# EAGLE library part M95320-WMN6P (library ST_Microelctronics_By_element14_Batch_1)
32 Kbit serial SPI bus EEPROMs
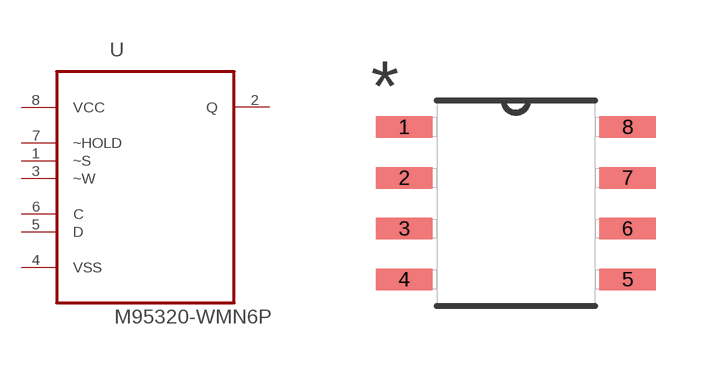
[diagram p269: symbol with the pads of SOIC127P600X175-8N; footprint SOIC127P600X175-8N]

Designator prefix U

## M95320-WMN6P (MPN: M95320-WMN6P; OC_FARNELL: 1159692; OC_NEWARK: 92K7330; PACKAGE: SOIC-8; SUPPLIER: STMICROELECTRONICS)  [SOIC127P600X175-8N]
1  ~S  in
2  Q  out
3  ~W  pas
4  VSS  pas
5  D  in
6  C  in
7  ~HOLD  pas
8  VCC  pwr

## Footprint SOIC127P600X175-8N (pad centres in mm)
smd 1.422 x 0.533: 1 -2.794,1.905; 2 -2.794,0.635; 3 -2.794,-0.635; 4 -2.794,-1.905; 5 2.794,-1.905; 6 2.794,-0.635; 7 2.794,0.635; 8 2.794,1.905